# EAGLE library part 6N137 (library vinoth-autodeskEagle)
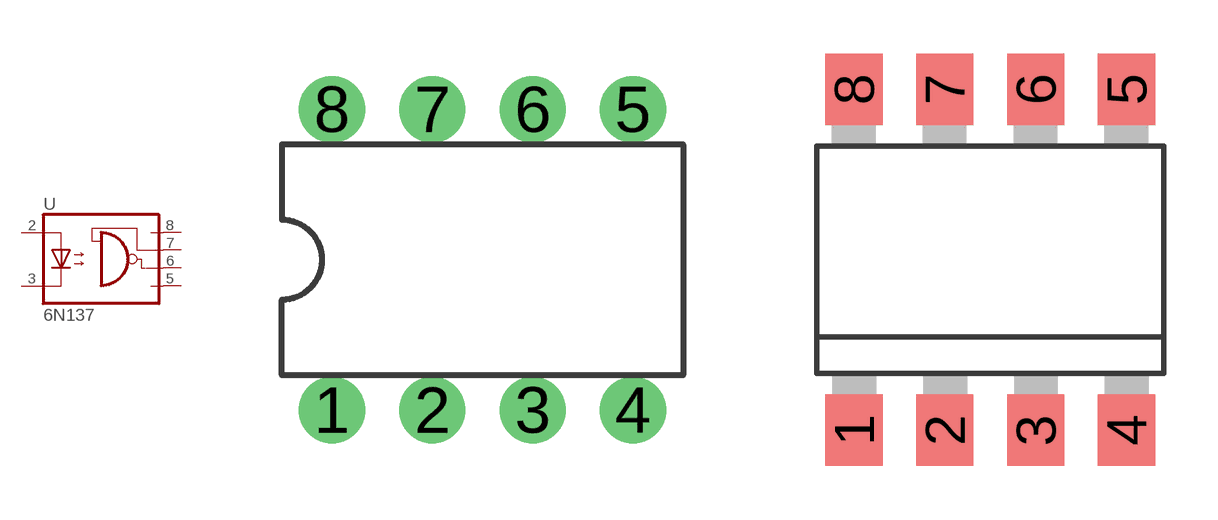
[diagram p0: symbol with the pads of DIL-08; footprints DIL-08, DIL-08-SMD]

Designator prefix -

## 6N137  [DIL-08]
2  A  pas
3  C  pas
5  GND  pas
6  VO  pas
7  VE  pas
8  VCC  pas

## 6N137DIL-08-SMD  [DIL-08-SMD]
Pads as for DIL-08

## Footprint DIL-08 (pad centres in mm)
drill 0.813 pad 1.676: 1 -3.81,-3.81; 2 -1.27,-3.81; 3 1.27,-3.81; 4 3.81,-3.81; 5 3.81,3.81; 6 1.27,3.81; 7 -1.27,3.81; 8 -3.81,3.81

## Footprint DIL-08-SMD (pad centres in mm)
smd 1.6 x 2: 1 -3.81,-4.77; 2 -1.27,-4.77; 3 1.27,-4.77; 4 3.81,-4.77; 5 3.81,4.77; 6 1.27,4.77; 7 -1.27,4.77; 8 -3.81,4.77